# Altium footprint library KST-51.PcbLib: 38 footprints (part 2 of 3)
Each footprint in its own frame and in the unit in brackets; x right, y up, seen from the top. Pads: shape width x height; smd on the part's side, far side on the other; paste and mask are expansions set on the pad; w line width, h text height; cw(c..) or ccw(c..) is an arc to the next point about the centre after c.
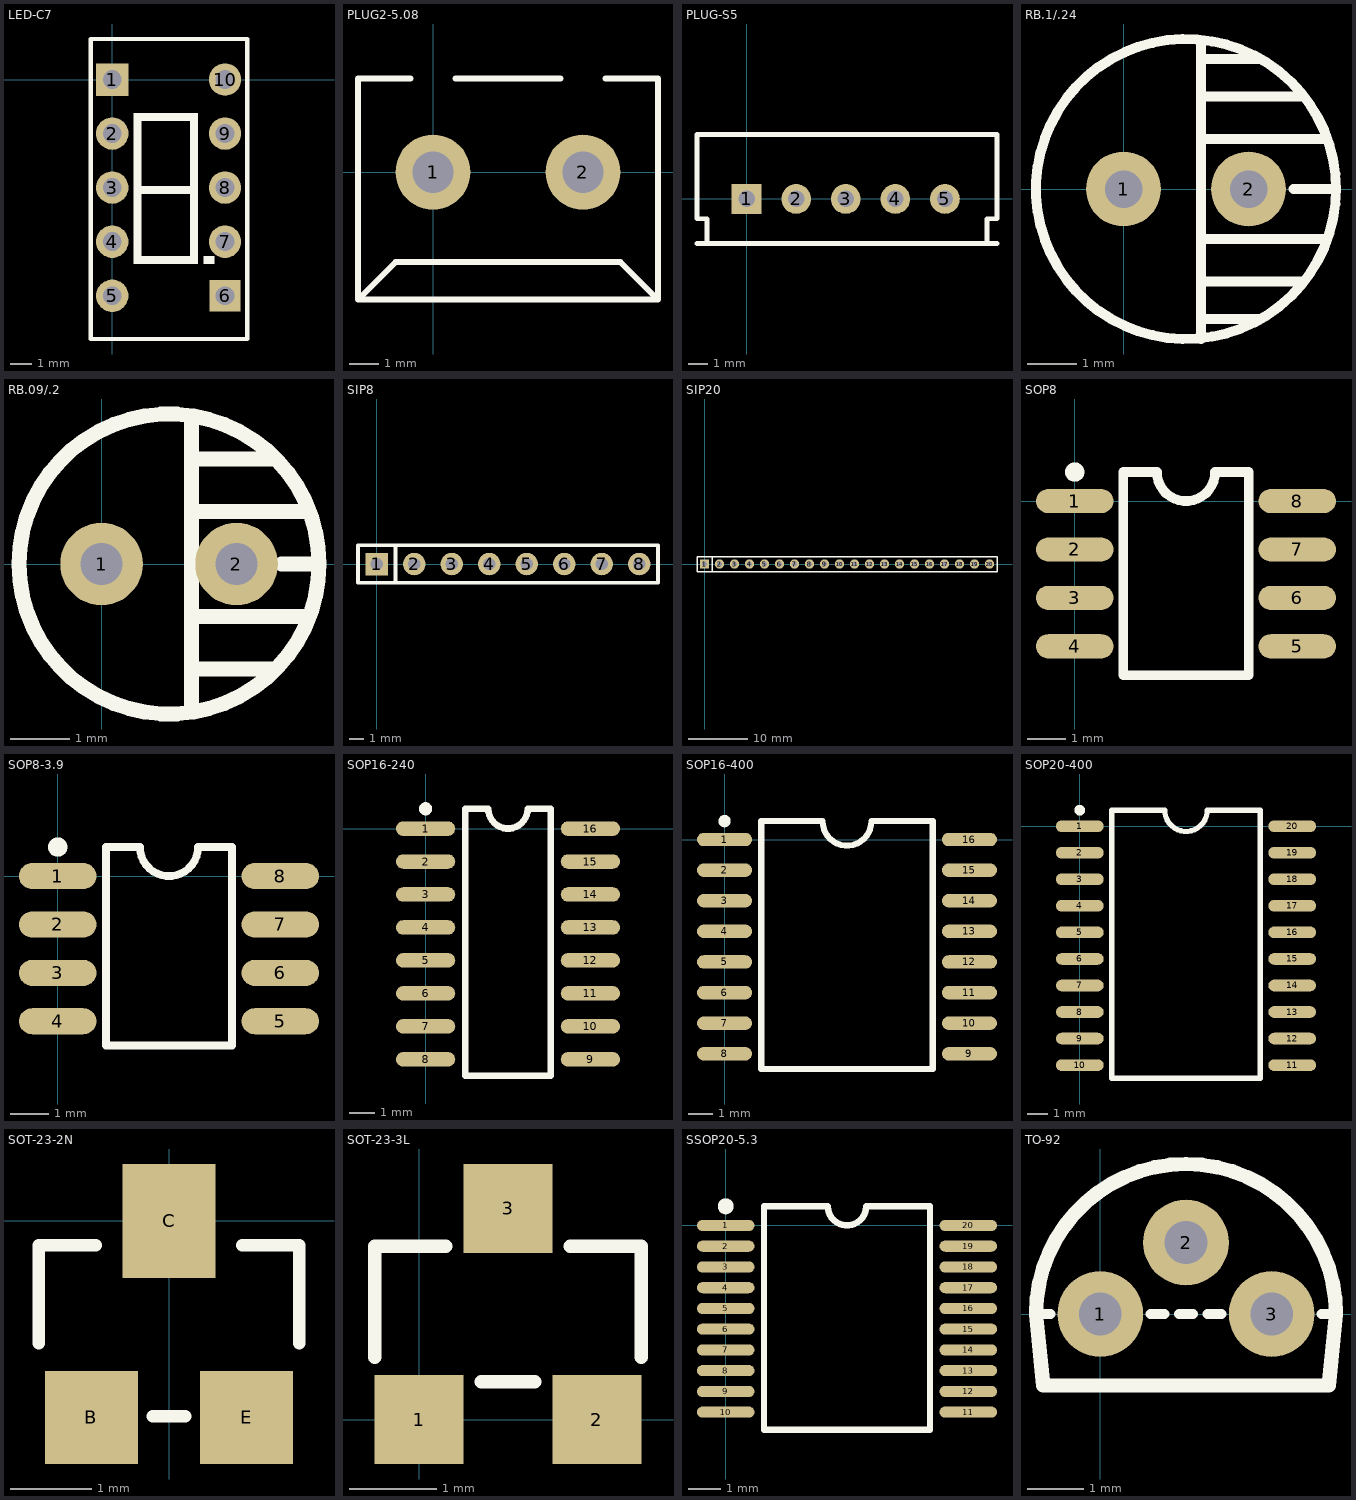
[diagram p1: the footprints below, top view; thin cyan lines are the x and y axes]

## LED-C7 [mil]
pads (10):
  rect 60x60 hole 35: 1(0,0)
  round 60 hole 35: 2(0,-100) 3(0,-200) 4(0,-300) 5(0,-400) 7(208.66,-300) 8(208.66,-200) 9(208.66,-100) 10(208.66,0)
  rect 58x58 hole 35: 6(208.66,-400)
Top Overlay:
  rectangle: 39.06,-341.57 159.06,-326.57
  rectangle: 39.06,-211.57 159.06,-196.57
  rectangle: 144.06,-336.57 159.06,-211.57
  rectangle: 39.06,-336.57 54.06,-211.57
  rectangle: 144.06,-201.57 159.06,-76.57
  rectangle: 169.06,-341.57 189.06,-326.57
  rectangle: 39.06,-201.57 54.06,-76.57
  rectangle: 39.06,-76.57 159.06,-61.57
  lines w8: -30,75 250,75 250,50 250,-480 -30,-480 -40,-480 -40,-440 -40,75 -10,75

## PLUG2-5.08 [mil]
pads (2):
  round 100 hole 55: 1(0,0) 2(200,0)
Top Overlay:
  lines w8: -30,125 -100,125 -100,-170 ; 30,125 170,125 ; 230,125 300,125 300,-170 ; -100,-170 300,-170 ; -100,-170 -50,-120 250,-120 300,-170

## PLUG-S5 [mil]
pads (5):
  rect 60x60 hole 33: 1(0,0)
  round 60 hole 33: 2(100,0) 3(200,0) 4(300,0) 5(400,0)
Top Overlay:
  lines w10: -100,-90 505,-90 ; -80,-90 -80,-40 -100,-40 -100,130 505,130 505,-40 485,-40 485,-90

## RB.1/.24 [mil]
pads (2):
  round 60 hole 30: 1(0,0) 2(100,0)
Top Overlay:
  circle w8: c50,0 r120
  lines w8: 62,-120 62,118 ; 62,-104 108,-104 ; 62,-74 142,-74 ; 62,-40 160,-40 ; 62,40 160,40 ; 64,74 142,74 ; 65,104 108,104 ; 136,0 170,0

## RB.09/.2 [mil]
pads (2):
  round 55 hole 28: 1(0,0) 2(90,0)
Top Overlay:
  circle w10: c45,0 r100
  lines w10: 60,-95 60,95 ; 60,-70 115,-70 ; 60,-35 135,-35 ; 60,35 135,35 ; 60,70 115,70 ; 120,0 145,0

## SIP8 [mil]
pads (8):
  rect 60x60 hole 33: 1(0,0)
  round 60 hole 33: 2(100,0) 3(200,0) 4(300,0) 5(400,0) 6(500,0) 7(600,0) 8(700,0)
Top Overlay:
  lines w10: 50,-50 50,50 ; -50,-50 -50,50 750,50 750,-50 -50,-50

## SIP20 [mil]
height 86.61
pads (20):
  rect 62x62 hole 33: 1(0,0)
  round 62 hole 33: 2(100,0) 3(200,0) 4(300,0) 5(400,0) 6(500,0) 7(600,0) 8(700,0) 9(800,0) 10(900,0) 11(1000,0) 12(1100,0) 13(1200,0) 14(1300,0) 15(1400,0) 16(1500,0) 17(1600,0) 18(1700,0) 19(1800,0) 20(1900,0)
Top Overlay:
  lines w10: 50,-50 50,50 ; -50,-50 -50,50 1950,50 1950,-50 -50,-50

## SOP8 [mil]
pads (8):
  oval 80x25 smd: 1(0,0) 2(0,-50) 3(0,-100) 4(0,-150) 5(230,-150) 6(230,-100) 7(230,-50) 8(230,0)
Top Overlay:
  circle w10: c0,30 r5
  lines w10: 50,-180 50,30 85,30 ccw(c115,30) 145,30 180,30 180,-180 50,-180

## SOP8-3.9 [mil] "8-Lead Small Outline Package, Body Width 3.9mm"
height 62.99
pads (8):
  oval 80x27 smd: 1(0,0) 2(0,-50) 3(0,-100) 4(0,-150) 5(230,-150) 6(230,-100) 7(230,-50) 8(230,0)
Top Overlay:
  circle w10: c0,30 r5
  lines w8: 50,-175 180,-175 180,30 145,30 cw(c115,30) 85,30 50,30 50,-175

## SOP16-240 [mil]
pads (16):
  oval 90x22 smd: 1(0,0) 2(0,-50) 3(0,-100) 4(0,-150) 5(0,-200) 6(0,-250) 7(0,-300) 8(0,-350) 9(250,-350) 10(250,-300) 11(250,-250) 12(250,-200) 13(250,-150) 14(250,-100) 15(250,-50) 16(250,0)
Top Overlay:
  circle w10: c0,30 r5
  lines w10: 60,-375 190,-375 190,30 155,30 cw(c125,30) 95,30 60,30 60,-375

## SOP16-400 [mil]
pads (16):
  oval 90x22 smd: 1(0,0) 2(0,-50) 3(0,-100) 4(0,-150) 5(0,-200) 6(0,-250) 7(0,-300) 8(0,-350) 9(400,-350) 10(400,-300) 11(400,-250) 12(400,-200) 13(400,-150) 14(400,-100) 15(400,-50) 16(400,0)
Top Overlay:
  circle w10: c0,30 r5
  lines w10: 60,-375 60,30 160,30 ccw(c200,30) 240,30 340,30 340,-375 60,-375

## SOP20-400 [mil]
pads (20):
  oval 90x22 smd: 1(0,0) 2(0,-50) 3(0,-100) 4(0,-150) 5(0,-200) 6(0,-250) 7(0,-300) 8(0,-350) 9(0,-400) 10(0,-450) 11(400,-450) 12(400,-400) 13(400,-350) 14(400,-300) 15(400,-250) 16(400,-200) 17(400,-150) 18(400,-100) 19(400,-50) 20(400,0)
Top Overlay:
  circle w10: c0,30 r5
  lines w10: 60,-475 60,30 160,30 ccw(c200,30) 240,30 340,30 340,-475 60,-475

## SOT-23-2N [mil]
pads (3):
  rect 45x45 smd: B(-37.5,-95) E(37.5,-95)
  rect 45x55 smd: C(0,0)
Top Overlay:
  lines w6: -62.99,-59.06 -62.99,-11.81 -35.43,-11.81 ; -7.87,-94.49 7.87,-94.49 ; 35.43,-11.81 62.99,-11.81 62.99,-59.06

## SOT-23-3L [mil] "3-Lead Small Outline Transistor Package"
height 47.24
pads (3):
  rect 40x40 smd: 1(0,0) 2(80,0) 3(40,95)
Top Overlay:
  lines w6: -20,28 -20,78 12,78 ; 28,17 52,17 ; 68,78 100,78 100,28

## SSOP20-5.3 [mm] "20-Lead Shrink Small Outline Package, Body Width 5.3mm"
height 1.5
pads (20):
  oval 1.8x0.35 smd: 1(0,0) 2(0,-0.65) 3(0,-1.3) 4(0,-1.95) 5(0,-2.6) 6(0,-3.25) 7(0,-3.9) 8(0,-4.55) 9(0,-5.2) 10(0,-5.85) 11(7.6,-5.85) 12(7.6,-5.2) 13(7.6,-4.55) 14(7.6,-3.9) 15(7.6,-3.25) 16(7.6,-2.6) 17(7.6,-1.95) 18(7.6,-1.3) 19(7.6,-0.65) 20(7.6,0)
Top Overlay:
  circle w0.3: c0,0.6 r0.1
  lines w0.2: 3.2,0.6 1.2,0.6 1.2,-6.4 6.4,-6.4 6.4,0.6 4.4,0.6
  lines w0.203: 3.2,0.6 ccw(c3.8,0.6) 4.4,0.6

## TO-92 [mil]
pads (3):
  round 60 hole 30: 1(0,0) 2(60,50) 3(120,0)
Top Overlay:
  lines w7: -45,0 -35,0 ; 35,0 45,0 ; 55,0 65,0 ; 75,0 85,0 ; 155,0 165,0
  lines w10: -45,0 cw(c60,0) 165,0 160,-50 -40,-50 -45,0